# Altium footprint library Project_Vega.PcbLib: 23 footprints (part 2 of 2)
Each footprint in its own frame and in the unit in brackets; x right, y up, seen from the top. Pads: shape width x height; smd on the part's side, far side on the other; paste and mask are expansions set on the pad; w line width, h text height; cw(c..) or ccw(c..) is an arc to the next point about the centre after c.
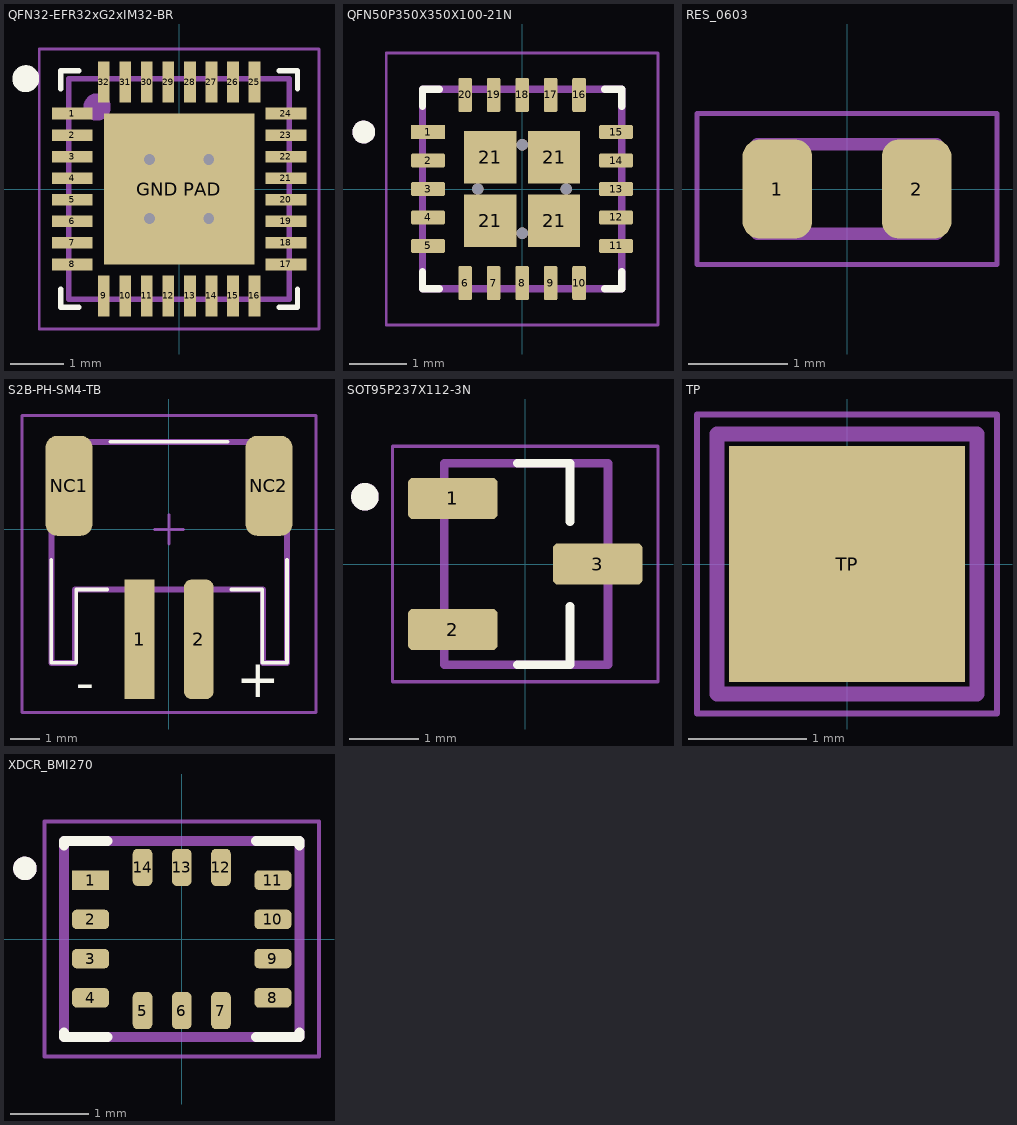
[diagram p1: the footprints below, top view; thin cyan lines are the x and y axes]

## QFN32-EFR32xG2xIM32-BR [mm] "QFN, 32-Leads, Body 4.00x4.00mm, Pitch 0.40mm, Thermal Pad 2.80x2.80mm, IPC Medium Density"
height 0.9
pads (33):
  rect 0.76x0.22 smd mask+0.06: 1(-1.985,1.4) 2(-1.985,1) 3(-1.985,0.6) 4(-1.985,0.2) 5(-1.985,-0.2) 6(-1.985,-0.6) 7(-1.985,-1) 8(-1.985,-1.4) 17(1.985,-1.4) 18(1.985,-1) 19(1.985,-0.6) 20(1.985,-0.2) 21(1.985,0.2) 22(1.985,0.6) 23(1.985,1) 24(1.985,1.4)
  rect 0.22x0.76 smd mask+0.06: 9(-1.4,-1.985) 10(-1,-1.985) 11(-0.6,-1.985) 12(-0.2,-1.985) 13(0.2,-1.985) 14(0.6,-1.985) 15(1,-1.985) 16(1.4,-1.985) 25(1.4,1.985) 26(1,1.985) 27(0.6,1.985) 28(0.2,1.985) 29(-0.2,1.985) 30(-0.6,1.985) 31(-1,1.985) 32(-1.4,1.985)
  rect 2.8x2.8 smd mask+0.06: "GND PAD"(0,0)
via 0.55,-0.55 diameter 0.5 hole 0.2
via -0.55,-0.55 diameter 0.5 hole 0.2
via 0.55,0.55 diameter 0.5 hole 0.2
via -0.55,0.55 diameter 0.5 hole 0.2
Top Overlay:
  circle w0.25: c-2.85,2.05 r0.125
  lines w0.1: -2.2,-1.86 -2.2,-2.2 -1.86,-2.2 ; -2.2,1.86 -2.2,2.2 -1.86,2.2 ; 1.86,-2.2 2.2,-2.2 2.2,-1.86 ; 1.86,2.2 2.2,2.2 2.2,1.86
Mechanical 13:
  circle w0.254: c-1.524,1.524 r0.127
  lines w0.1: -2.05,-2.05 2.05,-2.05 2.05,2.05 -2.05,2.05 -2.05,-2.05
  text ".Designator" at -1.785,-1.568 h0.65
Mechanical 15:
  lines w0.05: -2.6,-2.6 2.6,-2.6 2.6,2.6 -2.6,2.6 -2.6,-2.6
  lines w0.1: -0.5,0 0.5,0 ; 0,-0.5 0,0.5
3D body "QFN32-EFR32BG21A010F1024IM32-BR.step": height 0.9, standoff 0, extent -2.051,-2.051 2.051,2.051

## QFN50P350X350X100-21N [mm]
pads (24):
  rect 0.6x0.24 smd mask+0.07: 1(-1.65,1)
  rrect25% 0.6x0.24 smd mask+0.07: 2(-1.65,0.5) 3(-1.65,0) 4(-1.65,-0.5) 5(-1.65,-1) 11(1.65,-1) 12(1.65,-0.5) 13(1.65,0) 14(1.65,0.5) 15(1.65,1)
  rrect25% 0.24x0.6 smd mask+0.07: 6(-1,-1.65) 7(-0.5,-1.65) 8(0,-1.65) 9(0.5,-1.65) 10(1,-1.65) 16(1,1.65) 17(0.5,1.65) 18(0,1.65) 19(-0.5,1.65) 20(-1,1.65)
  rect 0.92x0.92 smd paste-0.375 mask+0.07: 21(-0.56,-0.56) 21(-0.56,0.56) 21(0.56,-0.56) 21(0.56,0.56)
via -0.775,0 diameter 0.2 hole 0.2
via 0,0.775 diameter 0.2 hole 0.2
via 0.775,0 diameter 0.2 hole 0.2
via 0,-0.775 diameter 0.2 hole 0.2
Top Overlay:
  circle w0.2: c-2.78,1 r0.1
  lines w0.127: -1.75,-1.45 -1.75,-1.75 -1.45,-1.75 ; -1.75,1.45 -1.75,1.75 -1.45,1.75 ; 1.45,-1.75 1.75,-1.75 1.75,-1.45 ; 1.45,1.75 1.75,1.75 1.75,1.45
Mechanical 13:
  circle w0.2: c-2.78,1 r0.1
  lines w0.127: -1.75,-1.75 1.75,-1.75 1.75,1.75 -1.75,1.75 -1.75,-1.75
  text ".Designator" at -1.018,2.143 h0.51
Mechanical 15:
  lines w0.05: -2.385,-2.385 2.385,-2.385 2.385,2.385 -2.385,2.385 -2.385,-2.385
3D body "step_temp.STEP": height 1, standoff 0, extent -1.75,-1.75 1.75,1.75

## RES_0603 [mm] "Thick film general purpose resistor 0603"
pads (2):
  rrect50% 0.7x1 smd: 1(-0.7,0) 2(0.7,0)
Mechanical 13:
  lines w0.127: -0.9,-0.45 -0.9,0.45 0.9,0.45 0.9,-0.45 -0.9,-0.45
  text ".Designator" at 0.102,-0.179 h0.51
Mechanical 15:
  lines w0.05: -1.508,-0.761 -1.508,0.761 1.508,0.761 1.508,-0.761 -1.508,-0.761
3D body "RC0603JR-070RL--3DModel-STEP-510211.STEP": height 0.55, standoff 0, extent -0.8,-0.4 0.8,0.4

## S2B-PH-SM4-TB [mil]
pads (4):
  rect 40x160 smd: 1(-39.44,-147.2)
  rrect50% 40x160 smd: 2(39.93,-147.2)
  rrect50% 63x134 smd: NC1(-133.93,58.46) NC2(133.93,58.46)
Top Overlay:
  lines w5: -157.55,-40.43 -157.55,-178.7 -124.09,-178.7 -124.09,-80.28 -82.68,-80.28 ; -78.74,117.46 78.74,117.46 ; 83.52,-80.28 124.93,-80.28 124.93,-178.7 157.93,-178.7 157.93,-40.43
  text "+" at 89.93,-241.54 h86.8
  text "-" at -125,-245 h86.8
Mechanical 13:
  lines w8: -157.55,-178.7 -157.55,117.46 157.93,117.46 157.93,-178.7 125.93,-178.7 125.93,-80.28 -126.06,-80.28 -126.06,-178.7 -157.55,-178.7
  text ".Designator" at -115,-10 h66.93
Mechanical 15:
  lines w3.94: -19.69,0 19.68,0 ; 0,-19.68 0,19.69 ; -196.85,-245 196.85,-245 196.85,152.48 -196.85,152.48 -196.85,-245
3D body "S2B-PH-SM4-TB.STEP": height 219.54, standoff -0.94, extent -156.09,-215.83 154.93,122.76

## SOT95P237X112-3N [mm]
height 1.12
pads (3):
  rrect25% 1.3x0.6 smd: 1(-1.05,0.95) 2(-1.05,-0.95) 3(1.05,0)
Top Overlay:
  circle w0.2: c-2.325,0.975 r0.1
  lines w0.127: -0.115,-1.46 0.65,-1.46 0.65,-0.615 ; -0.115,1.46 0.65,1.46 0.65,0.615
Mechanical 1:
  text ".Designator" at -0.838,-0.161 h0.51
Mechanical 13:
  circle w0.2: c-2.325,0.975 r0.1
  lines w0.127: -1.175,-1.46 1.2,-1.46 1.2,1.46 -1.175,1.46 -1.175,-1.46
Mechanical 15:
  lines w0.05: -1.925,-1.71 -1.925,1.71 1.925,1.71 1.925,-1.71 -1.925,-1.71
3D body "TMAG5231A2DQDBZR.STEP": height 1.12, standoff 0, extent -1.185,-1.46 1.185,1.46

## TP [mm] "Test point"
pads (1):
  rect 2x2 smd: TP(0,0)
Mechanical 13:
  lines w0.127: -1.1,-1.1 1.1,-1.1 1.1,1.1 -1.1,1.1 -1.1,-1.1
Mechanical 15:
  lines w0.05: -1.27,-1.265 1.27,-1.265 1.27,1.265 -1.27,1.265 -1.27,-1.265

## XDCR_BMI270 [mm]
height 0.87
pads (14):
  rect 0.475x0.25 smd: 1(-1.162,0.75)
  rrect50% 0.475x0.25 smd: 2(-1.162,0.25) 3(-1.162,-0.25) 4(-1.162,-0.75) 8(1.162,-0.75) 9(1.162,-0.25) 10(1.162,0.25) 11(1.162,0.75)
  rrect50% 0.25x0.475 smd: 5(-0.5,-0.913) 6(0,-0.913) 7(0.5,-0.913) 12(0.5,0.913) 13(0,0.913) 14(-0.5,0.913)
Top Overlay:
  circle w0.15: c-2,0.9 r0.075
  lines w0.127: -1.5,-1.195 -1.5,-1.25 -0.945,-1.25 ; -1.5,1.195 -1.5,1.25 -0.945,1.25 ; 0.945,-1.25 1.5,-1.25 1.5,-1.195 ; 0.945,1.25 1.5,1.25 1.5,1.195
Mechanical 13:
  circle w0.15: c-2,0.9 r0.075
  lines w0.127: -1.5,-1.25 1.5,-1.25 1.5,1.25 -1.5,1.25 -1.5,-1.25
  text ".Designator" at -0.429,-0.14 h0.51
Mechanical 15:
  lines w0.05: -1.75,-1.5 -1.75,1.5 1.75,1.5 1.75,-1.5 -1.75,-1.5
3D body "step_temp.STEP": height 0.87, standoff 0, extent -1.5,-1.25 1.5,1.25